# Altium schematic symbol library SCH - MISC - HFBR-1531Z.SCHLIB: 1 symbol
Pins are listed as number, name and electrical type; pins without a type are passive.

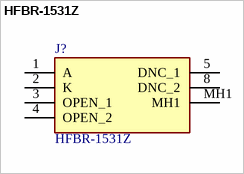
[diagram p0: symbol HFBR-1531Z]

## HFBR-1531Z
designator J?
Connector
pins: 1 A, 2 K, 3 OPEN_1, 4 OPEN_2, 5 DNC_1, 8 DNC_2, MH1